# Altium integrated library Linear Technology Power Management LDO Linear Regulators.IntLib: 2339 symbols (part 122 of 131)
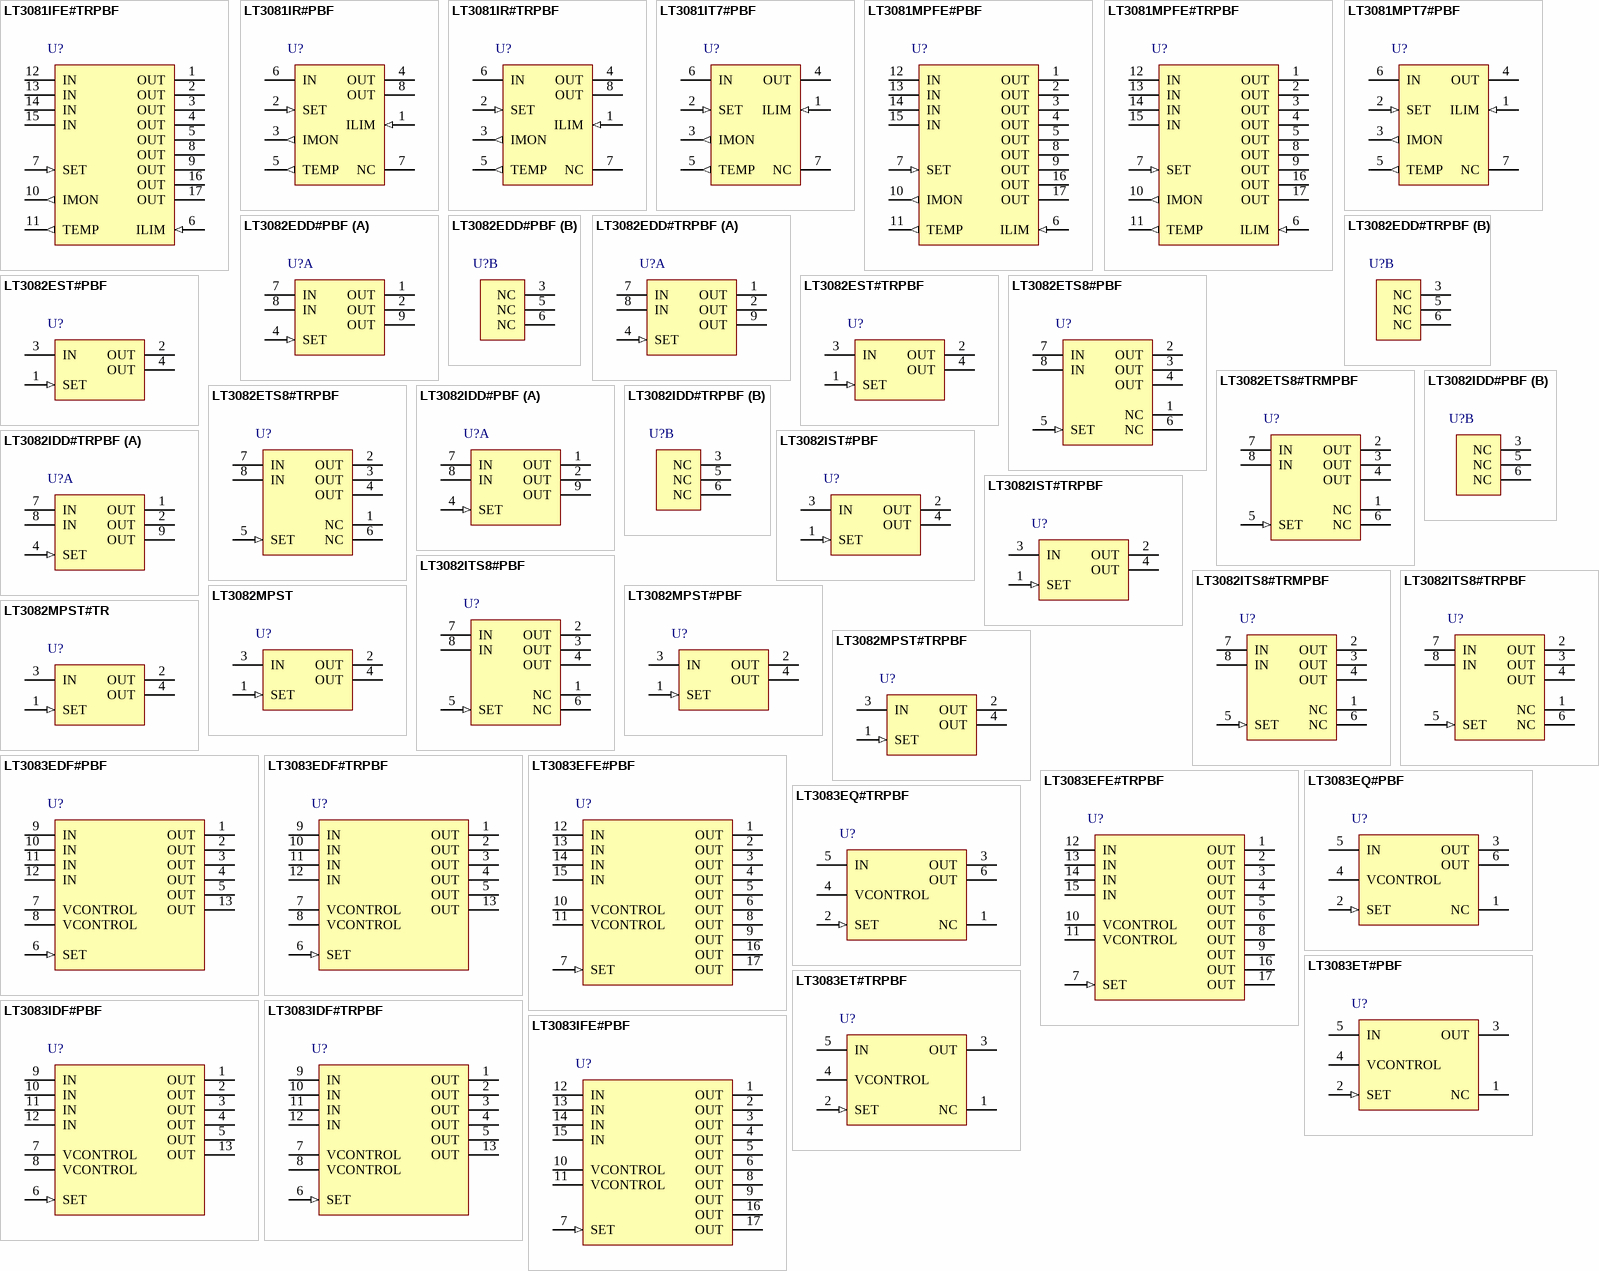
[diagram p190: symbols LT3081IFE#TRPBF to LT3083IFE#PBF]

## LT3081MPFE#PBF
designator U?
1.5 A Single Resistor Rugged Linear Regulator with Monitor, 1.2 to 36 V Vin, Adjustable Vout, 16-pin SOP (FE-16-EPV-BB), -55 to 125 degC, Pb-Free; Manufacturer: Linear Technology; PartNumber: LT3081MPFE#PBF; Discrete Pass Element: no; Dropout Voltage(V): 1.21; Iout(mA): 1500; Isupply(mA): 1.1; Noise(uV): 27; Number of Outputs: 1; Output Voltage: Adj; PSRR(dB): 90; Vin Max(V): 36; Vin Min(V): 1.2; Vout Max(V): 34.5; Vout Min(V): 0; PackageVersion: Rev. J, 11/2012; PackageReference: FE-16; PackageDescription: 16-Pin Plastic TSSOP, Body 5 x 4.4 mm, Pitch 0.65 mm; Supplier 1: Newark; Supplier Part Number 1: 94W8455; RoHS: TRUE; Mounting Technology: Surface Mount; ComponentLink1Description: Manufacturer URL; ComponentLink1URL: http://www.linear.com/; ComponentLink2Description: Datasheet; ComponentLink2URL: http://cds.linear.com/docs/en/datasheet/3081f.pdf; ComponentLink3Description: Package Specification; ComponentLink3URL: http://cds.linear.com/docs/en/packaging/05081663__J_FE16(BB).pdf
footprint LT-FE-16-EPV-BB_N (SOP, 16-Leads, Body 5.1x4.5mm, Pitch 0.65mm, Thermal Pad 3.58x2.94mm, IPC Medium Density)
footprint LT-FE-16-EPV-BB_L (SOP, 16-Leads, Body 5.1x4.5mm, Pitch 0.65mm, Thermal Pad 3.58x2.94mm, IPC High Density)
footprint LT-FE-16-EPV-BB_M (SOP, 16-Leads, Body 5.1x4.5mm, Pitch 0.65mm, Thermal Pad 3.58x2.94mm, IPC Low Density)
pins: 1 OUT (power) "Output. This is the power output of the device. The LT3081 requires a 5mA minimum load current for proper output regulation.", 2 OUT (power) "Output. This is the power output of the device. The LT3081 requires a 5mA minimum load current for proper output regulation.", 3 OUT (power) "Output. This is the power output of the device. The LT3081 requires a 5mA minimum load current for proper output regulation.", 4 OUT (power) "Output. This is the power output of the device. The LT3081 requires a 5mA minimum load current for proper output regulation.", 5 OUT (power) "Output. This is the power output of the device. The LT3081 requires a 5mA minimum load current for proper output regulation.", 6 ILIM (in) "Current Limit Program. A resistor between this pin and OUT programs output current limit to a level proportional to resistor value. Connect this resistor directly to OUT at the pins of the package. The typical ratio of (See Datasheet)", 7 SET (in) "Set. This pin is the error amplifier’s noninverting input and also sets the operating bias point of the circuit. A fixed 50uA current source flows out of this pin. A single external resistor programs VOUT. Output voltag(See Datasheet)", 8 OUT (power) "Output. This is the power output of the device. The LT3081 requires a 5mA minimum load current for proper output regulation.", 9 OUT (power) "Output. This is the power output of the device. The LT3081 requires a 5mA minimum load current for proper output regulation.", 10 IMON (out) "Output Current Monitor. The IMON pin sources a current typically equal to ILOAD/5000 or 200uA per amp of output current. Terminating this pin with a resistor to GND produces a voltage proportional to ILOAD. For example, at (See Datasheet)", 11 TEMP (out) "Temperature Output. This pin delivers a current proportional to the internal average junction temperature. Current output is 1uA/degreesC for temperatures above 5degreesC. The TEMP pin output current typically equals 25uA at (See Datasheet)", 12 IN (power) "Input. This pin supplies power to regulate internal circuitry and supply output load current. For the device to operate properly and regulate, the voltage on this pin must be between the dropout voltage and 36V above the OUT (See Datasheet)", 13 IN (power) "Input. This pin supplies power to regulate internal circuitry and supply output load current. For the device to operate properly and regulate, the voltage on this pin must be between the dropout voltage and 36V above the OUT (See Datasheet)", 14 IN (power) "Input. This pin supplies power to regulate internal circuitry and supply output load current. For the device to operate properly and regulate, the voltage on this pin must be between the dropout voltage and 36V above the OUT (See Datasheet)", 15 IN (power) "Input. This pin supplies power to regulate internal circuitry and supply output load current. For the device to operate properly and regulate, the voltage on this pin must be between the dropout voltage and 36V above the OUT (See Datasheet)", 16 OUT (power) "Output. This is the power output of the device. The LT3081 requires a 5mA minimum load current for proper output regulation.", 17 OUT (power) "Output. The exposed pad of the DF and FE packages and the tab of the R and T7 packages are tied internally to OUT. As such, tie them directly to OUT (Pins 1-4/Pins 1-5, 8, 9, 16/Pin 4/Pin 4) at the PCB. The amount of copper (See Datasheet)"

## LT3081MPFE#TRPBF
designator U?
1.5 A Single Resistor Rugged Linear Regulator with Monitor, 1.2 to 36 V Vin, Adjustable Vout, 16-pin SOP (FE-16-EPV-BB), -55 to 125 degC, Pb-Free, Tape and Reel; Manufacturer: Linear Technology; PartNumber: LT3081MPFE#TRPBF; Discrete Pass Element: no; Dropout Voltage(V): 1.21; Iout(mA): 1500; Isupply(mA): 1.1; Noise(uV): 27; Number of Outputs: 1; Output Voltage: Adj; PSRR(dB): 90; Vin Max(V): 36; Vin Min(V): 1.2; Vout Max(V): 34.5; Vout Min(V): 0; PackageVersion: Rev. J, 11/2012; PackageReference: FE-16; PackageDescription: 16-Pin Plastic TSSOP, Body 5 x 4.4 mm, Pitch 0.65 mm; Supplier 1: Digi-Key; Supplier Part Number 1: LT3081MPFE#TRPBF-ND; Supplier 2: Newark; Supplier Part Number 2: 94W8456; Packing: Tape and Reel; RoHS: TRUE; Mounting Technology: Surface Mount; ComponentLink1Description: Manufacturer URL; ComponentLink1URL: http://www.linear.com/; ComponentLink2Description: Datasheet; ComponentLink2URL: http://cds.linear.com/docs/en/datasheet/3081f.pdf; ComponentLink3Description: Package Specification; ComponentLink3URL: http://cds.linear.com/docs/en/packaging/05081663__J_FE16(BB).pdf
footprint LT-FE-16-EPV-BB_N (SOP, 16-Leads, Body 5.1x4.5mm, Pitch 0.65mm, Thermal Pad 3.58x2.94mm, IPC Medium Density)
footprint LT-FE-16-EPV-BB_L (SOP, 16-Leads, Body 5.1x4.5mm, Pitch 0.65mm, Thermal Pad 3.58x2.94mm, IPC High Density)
footprint LT-FE-16-EPV-BB_M (SOP, 16-Leads, Body 5.1x4.5mm, Pitch 0.65mm, Thermal Pad 3.58x2.94mm, IPC Low Density)
pins: 1 OUT (power) "Output. This is the power output of the device. The LT3081 requires a 5mA minimum load current for proper output regulation.", 2 OUT (power) "Output. This is the power output of the device. The LT3081 requires a 5mA minimum load current for proper output regulation.", 3 OUT (power) "Output. This is the power output of the device. The LT3081 requires a 5mA minimum load current for proper output regulation.", 4 OUT (power) "Output. This is the power output of the device. The LT3081 requires a 5mA minimum load current for proper output regulation.", 5 OUT (power) "Output. This is the power output of the device. The LT3081 requires a 5mA minimum load current for proper output regulation.", 6 ILIM (in) "Current Limit Program. A resistor between this pin and OUT programs output current limit to a level proportional to resistor value. Connect this resistor directly to OUT at the pins of the package. The typical ratio of (See Datasheet)", 7 SET (in) "Set. This pin is the error amplifier’s noninverting input and also sets the operating bias point of the circuit. A fixed 50uA current source flows out of this pin. A single external resistor programs VOUT. Output voltag(See Datasheet)", 8 OUT (power) "Output. This is the power output of the device. The LT3081 requires a 5mA minimum load current for proper output regulation.", 9 OUT (power) "Output. This is the power output of the device. The LT3081 requires a 5mA minimum load current for proper output regulation.", 10 IMON (out) "Output Current Monitor. The IMON pin sources a current typically equal to ILOAD/5000 or 200uA per amp of output current. Terminating this pin with a resistor to GND produces a voltage proportional to ILOAD. For example, at (See Datasheet)", 11 TEMP (out) "Temperature Output. This pin delivers a current proportional to the internal average junction temperature. Current output is 1uA/degreesC for temperatures above 5degreesC. The TEMP pin output current typically equals 25uA at (See Datasheet)", 12 IN (power) "Input. This pin supplies power to regulate internal circuitry and supply output load current. For the device to operate properly and regulate, the voltage on this pin must be between the dropout voltage and 36V above the OUT (See Datasheet)", 13 IN (power) "Input. This pin supplies power to regulate internal circuitry and supply output load current. For the device to operate properly and regulate, the voltage on this pin must be between the dropout voltage and 36V above the OUT (See Datasheet)", 14 IN (power) "Input. This pin supplies power to regulate internal circuitry and supply output load current. For the device to operate properly and regulate, the voltage on this pin must be between the dropout voltage and 36V above the OUT (See Datasheet)", 15 IN (power) "Input. This pin supplies power to regulate internal circuitry and supply output load current. For the device to operate properly and regulate, the voltage on this pin must be between the dropout voltage and 36V above the OUT (See Datasheet)", 16 OUT (power) "Output. This is the power output of the device. The LT3081 requires a 5mA minimum load current for proper output regulation.", 17 OUT (power) "Output. The exposed pad of the DF and FE packages and the tab of the R and T7 packages are tied internally to OUT. As such, tie them directly to OUT (Pins 1-4/Pins 1-5, 8, 9, 16/Pin 4/Pin 4) at the PCB. The amount of copper (See Datasheet)"

## LT3081MPT7#PBF
designator U?
1.5 A Single Resistor Rugged Linear Regulator with Monitor, 1.2 to 36 V Vin, Adjustable Vout, 7-pin FM (T7-7), -55 to 125 degC, Pb-Free; Manufacturer: Linear Technology; PartNumber: LT3081MPT7#PBF; Discrete Pass Element: no; Dropout Voltage(V): 1.21; Iout(mA): 1500; Isupply(mA): 1.1; Noise(uV): 27; Number of Outputs: 1; Output Voltage: Adj; PSRR(dB): 90; Vin Max(V): 36; Vin Min(V): 1.2; Vout Max(V): 34.5; Vout Min(V): 0; PackageVersion: Jun-10; PackageReference: T7-7; PackageDescription: 7-Pin Plastic TO-220 (Straight Lead), Body 10.224 x 4.382 mm, Pitch 1.27 mm; Supplier 1: Newark; Supplier Part Number 1: 94W8457; RoHS: TRUE; Mounting Technology: Through Hole; ComponentLink1Description: Manufacturer URL; ComponentLink1URL: http://www.linear.com/; ComponentLink2Description: Datasheet; ComponentLink2URL: http://cds.linear.com/docs/en/datasheet/3081f.pdf; ComponentLink3Description: Package Specification; ComponentLink3URL: http://www.linear.com/docs/en/packaging/TO-220_7_05-08-1422_STRAIGHT_LEAD.pdf
footprint LT-T7-7-S_V (FM, 7-Leads, Body 10.55x4.6mm, Pitch 1.27mm)
pins: 1 ILIM (in) "Current Limit Program. A resistor between this pin and OUT programs output current limit to a level proportional to resistor value. Connect this resistor directly to OUT at the pins of the package. The typical ratio of (See Datasheet)", 2 SET (in) "Set. This pin is the error amplifier’s noninverting input and also sets the operating bias point of the circuit. A fixed 50uA current source flows out of this pin. A single external resistor programs VOUT. Output voltag(See Datasheet)", 3 IMON (out) "Output Current Monitor. The IMON pin sources a current typically equal to ILOAD/5000 or 200uA per amp of output current. Terminating this pin with a resistor to GND produces a voltage proportional to ILOAD. For example, at (See Datasheet)", 4 OUT (power) "Output. This is the power output of the device. The LT3081 requires a 5mA minimum load current for proper output regulation.", 5 TEMP (out) "Temperature Output. This pin delivers a current proportional to the internal average junction temperature. Current output is 1uA/degC for temperatures above 5degC. The TEMP pin output current typically equals 25uA at 25degC. (See Datasheet)", 6 IN (power) "Input. This pin supplies power to regulate internal circuitry and supply output load current. For the device to operate properly and regulate, the voltage on this pin must be between the dropout voltage and 36V above the OUT (See Datasheet)", 7 NC "No Connection. No connect pins have no connection to internal circuitry and may be tied to IN, OUT, GND or floated."

## LT3082EDD#PBF
designator U?
200 mA Single Resistor Low Dropout Linear Regulator, 1.2 to 40 V Vin, Adjustable Vout, 8-pin SON (DD-8), -40 to 125 degC, Pb-Free; Manufacturer: Linear Technology; PartNumber: LT3082EDD#PBF; Discrete Pass Element: no; Dropout Voltage(V): 1.3; Iout(mA): 200; Isupply(mA): 0.3; Noise(uV): 33; Number of Outputs: 1; Output Voltage: Adj; PSRR(dB): 90; Vin Max(V): 40; Vin Min(V): 1.2; Vout Max(V): 38.5; Vout Min(V): 0; PackageVersion: Jun-10; PackageReference: DD-8; PackageDescription: 8-Pin Plastic DFN, Body 3 x 3 mm, Pitch 0.5 mm; Supplier 1: Digi-Key; Supplier Part Number 1: LT3082EDD#PBF-ND; Supplier 2: Farnell; Supplier Part Number 2: 2295276; Supplier 3: Newark; Supplier Part Number 3: 28R7638; RoHS: TRUE; Mounting Technology: Surface Mount; Code_JEDEC: MO-229; ComponentLink1Description: Manufacturer URL; ComponentLink1URL: http://www.linear.com/; ComponentLink2Description: Datasheet; ComponentLink2URL: http://cds.linear.com/docs/en/datasheet/3082f.pdf; ComponentLink3Description: Package Specification; ComponentLink3URL: http://cds.linear.com/docs/en/packaging/DFN_8_05-08-1698.pdf
footprint LT-DD-8_V (SON, 8-Leads, Body 3x3mm, Pitch 0.5mm, Thermal Pad 1.65x2.38 mm, IPC Low Density)
part A pins: 1 OUT (power) "Output. This is the power output of the device. The LT3082 requires a 0.5mA minimum load current or the output will not regulate.", 2 OUT (power) "Output. This is the power output of the device. The LT3082 requires a 0.5mA minimum load current or the output will not regulate.", 4 SET (in) "Set. This pin is the error amplifier’s noninverting input and also sets the operating bias point of the circuit. A fixed 10uA current source flows out of this pin. A single external resistor programs VOUT. Output voltag(See Datasheet)", 7 IN (power) "Input. This pin supplies power to regulate internal circuitry and supply output load current. For the device to operate properly and regulate, the voltage on this pin must be 1.2V to 1.4V above the OUT pin (depending on (See Datasheet)", 8 IN (power) "Input. This pin supplies power to regulate internal circuitry and supply output load current. For the device to operate properly and regulate, the voltage on this pin must be 1.2V to 1.4V above the OUT pin (depending on (See Datasheet)", 9 OUT (power) "Output. The Exposed Pad of the DFN package and the Tab of the SOT-223 package are tied internally to OUT. Tie them directly to OUT pins (Pins 1, 2/Pin 2) at the PCB. The amount of copper area and planes connected to the (See Datasheet)"
part B pins: 3 NC "No Connection. These pins have no connection to internal circuitry and may be tied to IN, OUT, GND or floated.", 5 NC "No Connection. These pins have no connection to internal circuitry and may be tied to IN, OUT, GND or floated.", 6 NC "No Connection. These pins have no connection to internal circuitry and may be tied to IN, OUT, GND or floated."

## LT3082EDD#TRPBF
designator U?
200 mA Single Resistor Low Dropout Linear Regulator, 1.2 to 40 V Vin, Adjustable Vout, 8-pin SON (DD-8), -40 to 125 degC, Pb-Free, Tape and Reel; Manufacturer: Linear Technology; PartNumber: LT3082EDD#TRPBF; Discrete Pass Element: no; Dropout Voltage(V): 1.3; Iout(mA): 200; Isupply(mA): 0.3; Noise(uV): 33; Number of Outputs: 1; Output Voltage: Adj; PSRR(dB): 90; Vin Max(V): 40; Vin Min(V): 1.2; Vout Max(V): 38.5; Vout Min(V): 0; PackageVersion: Jun-10; PackageReference: DD-8; PackageDescription: 8-Pin Plastic DFN, Body 3 x 3 mm, Pitch 0.5 mm; Supplier 1: Digi-Key; Supplier Part Number 1: LT3082EDD#TRPBF-ND; Supplier 2: Newark; Supplier Part Number 2: 72R5799; Packing: Tape and Reel; RoHS: TRUE; Mounting Technology: Surface Mount; Code_JEDEC: MO-229; ComponentLink1Description: Manufacturer URL; ComponentLink1URL: http://www.linear.com/; ComponentLink2Description: Datasheet; ComponentLink2URL: http://cds.linear.com/docs/en/datasheet/3082f.pdf; ComponentLink3Description: Package Specification; ComponentLink3URL: http://cds.linear.com/docs/en/packaging/DFN_8_05-08-1698.pdf
footprint LT-DD-8_V (SON, 8-Leads, Body 3x3mm, Pitch 0.5mm, Thermal Pad 1.65x2.38 mm, IPC Low Density)
part A pins: 1 OUT (power) "Output. This is the power output of the device. The LT3082 requires a 0.5mA minimum load current or the output will not regulate.", 2 OUT (power) "Output. This is the power output of the device. The LT3082 requires a 0.5mA minimum load current or the output will not regulate.", 4 SET (in) "Set. This pin is the error amplifier’s noninverting input and also sets the operating bias point of the circuit. A fixed 10uA current source flows out of this pin. A single external resistor programs VOUT. Output voltag(See Datasheet)", 7 IN (power) "Input. This pin supplies power to regulate internal circuitry and supply output load current. For the device to operate properly and regulate, the voltage on this pin must be 1.2V to 1.4V above the OUT pin (depending on (See Datasheet)", 8 IN (power) "Input. This pin supplies power to regulate internal circuitry and supply output load current. For the device to operate properly and regulate, the voltage on this pin must be 1.2V to 1.4V above the OUT pin (depending on (See Datasheet)", 9 OUT (power) "Output. The Exposed Pad of the DFN package and the Tab of the SOT-223 package are tied internally to OUT. Tie them directly to OUT pins (Pins 1, 2/Pin 2) at the PCB. The amount of copper area and planes connected to the (See Datasheet)"
part B pins: 3 NC "No Connection. These pins have no connection to internal circuitry and may be tied to IN, OUT, GND or floated.", 5 NC "No Connection. These pins have no connection to internal circuitry and may be tied to IN, OUT, GND or floated.", 6 NC "No Connection. These pins have no connection to internal circuitry and may be tied to IN, OUT, GND or floated."

## LT3082EST#PBF
designator U?
200 mA Single Resistor Low Dropout Linear Regulator, 1.2 to 40 V Vin, Adjustable Vout, 3-pin SOT223 (ST-3), -40 to 125 degC, Pb-Free; Manufacturer: Linear Technology; PartNumber: LT3082EST#PBF; Discrete Pass Element: no; Dropout Voltage(V): 1.3; Iout(mA): 200; Isupply(mA): 0.3; Noise(uV): 33; Number of Outputs: 1; Output Voltage: Adj; PSRR(dB): 90; Vin Max(V): 40; Vin Min(V): 1.2; Vout Max(V): 38.5; Vout Min(V): 0; PackageVersion: Jun-10; PackageReference: ST-3; PackageDescription: 3-Pin Plastic SOT-223, 3.505 x 6.505 mm Body, Pitch 2.3 mm; Supplier 1: Digi-Key; Supplier Part Number 1: LT3082EST#PBF-ND; Supplier 2: Farnell; Supplier Part Number 2: 2295277; Supplier 3: Newark; Supplier Part Number 3: 28R7639; RoHS: TRUE; Mounting Technology: Surface Mount; ComponentLink1Description: Manufacturer URL; ComponentLink1URL: http://www.linear.com/; ComponentLink2Description: Datasheet; ComponentLink2URL: http://cds.linear.com/docs/en/datasheet/3082f.pdf; ComponentLink3Description: Package Specification; ComponentLink3URL: http://cds.linear.com/docs/en/packaging/SOT_3_05-08-1630.pdf
footprint LT-ST-3-SOT-223_N (SOT223, 4-Leads, Body 6.505x3.505mm, Pitch 2.3mm, IPC Medium Density)
footprint LT-ST-3-SOT-223_L (SOT223, 4-Leads, Body 6.505x3.505mm, Pitch 2.3mm, IPC High Density)
footprint LT-ST-3-SOT-223_M (SOT223, 4-Leads, Body 6.505x3.505mm, Pitch 2.3mm, IPC Low Density)
pins: 1 SET (in) "Set. This pin is the error amplifier's noninverting input and also sets the operating bias point of the circuit. A fixed 10uA current source flows out of this pin. A single external resistor programs VOUT. Output voltag(See Datasheet)", 2 OUT (power) "Output. This is the power output of the device. The LT3082 requires a 0.5mA minimum load current or the output will not regulate.", 3 IN (power) "Input. This pin supplies power to regulate internal circuitry and supply output load current. For the device to operate properly and regulate, the voltage on this pin must be 1.2V to 1.4V above the OUT pin (depending on (See Datasheet)", 4 OUT (power) "Output. This is the power output of the device. The LT3082 requires a 0.5mA minimum load current or the output will not regulate."

## LT3082EST#TRPBF
designator U?
200 mA Single Resistor Low Dropout Linear Regulator, 1.2 to 40 V Vin, Adjustable Vout, 3-pin SOT223 (ST-3), -40 to 125 degC, Pb-Free, Tape and Reel; Manufacturer: Linear Technology; PartNumber: LT3082EST#TRPBF; Discrete Pass Element: no; Dropout Voltage(V): 1.3; Iout(mA): 200; Isupply(mA): 0.3; Noise(uV): 33; Number of Outputs: 1; Output Voltage: Adj; PSRR(dB): 90; Vin Max(V): 40; Vin Min(V): 1.2; Vout Max(V): 38.5; Vout Min(V): 0; PackageVersion: Jun-10; PackageReference: ST-3; PackageDescription: 3-Pin Plastic SOT-223, 3.505 x 6.505 mm Body, Pitch 2.3 mm; Supplier 1: Digi-Key; Supplier Part Number 1: LT3082EST#TRPBF-ND; Supplier 2: Newark; Supplier Part Number 2: 72R5800; Packing: Tape and Reel; RoHS: TRUE; Mounting Technology: Surface Mount; ComponentLink1Description: Manufacturer URL; ComponentLink1URL: http://www.linear.com/; ComponentLink2Description: Datasheet; ComponentLink2URL: http://cds.linear.com/docs/en/datasheet/3082f.pdf; ComponentLink3Description: Package Specification; ComponentLink3URL: http://cds.linear.com/docs/en/packaging/SOT_3_05-08-1630.pdf
footprint LT-ST-3-SOT-223_N (SOT223, 4-Leads, Body 6.505x3.505mm, Pitch 2.3mm, IPC Medium Density)
footprint LT-ST-3-SOT-223_L (SOT223, 4-Leads, Body 6.505x3.505mm, Pitch 2.3mm, IPC High Density)
footprint LT-ST-3-SOT-223_M (SOT223, 4-Leads, Body 6.505x3.505mm, Pitch 2.3mm, IPC Low Density)
pins: 1 SET (in) "Set. This pin is the error amplifier's noninverting input and also sets the operating bias point of the circuit. A fixed 10uA current source flows out of this pin. A single external resistor programs VOUT. Output voltag(See Datasheet)", 2 OUT (power) "Output. This is the power output of the device. The LT3082 requires a 0.5mA minimum load current or the output will not regulate.", 3 IN (power) "Input. This pin supplies power to regulate internal circuitry and supply output load current. For the device to operate properly and regulate, the voltage on this pin must be 1.2V to 1.4V above the OUT pin (depending on (See Datasheet)", 4 OUT (power) "Output. This is the power output of the device. The LT3082 requires a 0.5mA minimum load current or the output will not regulate."

## LT3082ETS8#PBF
designator U?
200 mA Single Resistor Low Dropout Linear Regulator, 1.2 to 40 V Vin, Adjustable Vout, 8-pin SOT23 (TS8-8), -40 to 125 degC, Pb-Free; Manufacturer: Linear Technology; PartNumber: LT3082ETS8#PBF; Discrete Pass Element: no; Dropout Voltage(V): 1.3; Iout(mA): 200; Isupply(mA): 0.3; Noise(uV): 33; Number of Outputs: 1; Output Voltage: Adj; PSRR(dB): 90; Vin Max(V): 40; Vin Min(V): 1.2; Vout Max(V): 38.5; Vout Min(V): 0; PackageVersion: Rev. A, 08/2010; PackageReference: TS8-8; PackageDescription: 8-Pin Plastic TSOT-23, Body 2.9 x 1.63 mm, Pitch 0.65 mm; Supplier 1: Farnell; Supplier Part Number 1: 2308196; Supplier 2: Newark; Supplier Part Number 2: 78T3979; RoHS: TRUE; Mounting Technology: Surface Mount; Code_JEDEC: MO-193; ComponentLink1Description: Manufacturer URL; ComponentLink1URL: http://www.linear.com/; ComponentLink2Description: Datasheet; ComponentLink2URL: http://cds.linear.com/docs/en/datasheet/3082f.pdf; ComponentLink3Description: Package Specification; ComponentLink3URL: http://cds.linear.com/docs/en/packaging/SOT_8_05-08-1637.pdf
footprint LT-TS8-8-TSOT-23_V (SOT23, 8-Leads, Body 2.90x1.63mm, Pitch 0.65mm, Recommended)
pins: 1 NC "No Connection. These pins have no connection to internal circuitry and may be tied to IN, OUT, GND or floated.", 2 OUT (power) "Output. This is the power output of the device. The LT3082 requires a 0.5mA minimum load current or the output will not regulate.", 3 OUT (power) "Output. This is the power output of the device. The LT3082 requires a 0.5mA minimum load current or the output will not regulate.", 4 OUT (power) "Output. This is the power output of the device. The LT3082 requires a 0.5mA minimum load current or the output will not regulate.", 5 SET (in) "Set. This pin is the error amplifier’s noninverting input and also sets the operating bias point of the circuit. A fixed 10uA current source flows out of this pin. A single external resistor programs VOUT. Output voltag(See Datasheet)", 6 NC "No Connection. These pins have no connection to internal circuitry and may be tied to IN, OUT, GND or floated.", 7 IN (power) "Input. This pin supplies power to regulate internal circuitry and supply output load current. For the device to operate properly and regulate, the voltage on this pin must be 1.2V to 1.4V above the OUT pin (depending on (See Datasheet)", 8 IN (power) "Input. This pin supplies power to regulate internal circuitry and supply output load current. For the device to operate properly and regulate, the voltage on this pin must be 1.2V to 1.4V above the OUT pin (depending on (See Datasheet)"

## LT3082ETS8#TRMPBF
designator U?
200 mA Single Resistor Low Dropout Linear Regulator, 1.2 to 40 V Vin, Adjustable Vout, 8-pin SOT23 (TS8-8), -40 to 125 degC, Pb-Free, Mini Tape and Reel; Manufacturer: Linear Technology; PartNumber: LT3082ETS8#TRMPBF; Discrete Pass Element: no; Dropout Voltage(V): 1.3; Iout(mA): 200; Isupply(mA): 0.3; Noise(uV): 33; Number of Outputs: 1; Output Voltage: Adj; PSRR(dB): 90; Vin Max(V): 40; Vin Min(V): 1.2; Vout Max(V): 38.5; Vout Min(V): 0; PackageVersion: Rev. A, 08/2010; PackageReference: TS8-8; PackageDescription: 8-Pin Plastic TSOT-23, Body 2.9 x 1.63 mm, Pitch 0.65 mm; Supplier 1: Digi-Key; Supplier Part Number 1: LT3082ETS8#TRMPBFTR-ND; Supplier 2: Digi-Key; Supplier Part Number 2: LT3082ETS8#TRMPBFCT-ND; Supplier 3: Digi-Key; Supplier Part Number 3: LT3082ETS8#TRMPBFDKR-ND; Supplier 4: Newark; Supplier Part Number 4: 53R1266; Packing: Mini Tape and Reel; RoHS: TRUE; Mounting Technology: Surface Mount; Code_JEDEC: MO-193; ComponentLink1Description: Manufacturer URL; ComponentLink1URL: http://www.linear.com/; ComponentLink2Description: Datasheet; ComponentLink2URL: http://cds.linear.com/docs/en/datasheet/3082f.pdf; ComponentLink3Description: Package Specification; ComponentLink3URL: http://cds.linear.com/docs/en/packaging/SOT_8_05-08-1637.pdf
footprint LT-TS8-8-TSOT-23_V (SOT23, 8-Leads, Body 2.90x1.63mm, Pitch 0.65mm, Recommended)
pins: 1 NC "No Connection. These pins have no connection to internal circuitry and may be tied to IN, OUT, GND or floated.", 2 OUT (power) "Output. This is the power output of the device. The LT3082 requires a 0.5mA minimum load current or the output will not regulate.", 3 OUT (power) "Output. This is the power output of the device. The LT3082 requires a 0.5mA minimum load current or the output will not regulate.", 4 OUT (power) "Output. This is the power output of the device. The LT3082 requires a 0.5mA minimum load current or the output will not regulate.", 5 SET (in) "Set. This pin is the error amplifier’s noninverting input and also sets the operating bias point of the circuit. A fixed 10uA current source flows out of this pin. A single external resistor programs VOUT. Output voltag(See Datasheet)", 6 NC "No Connection. These pins have no connection to internal circuitry and may be tied to IN, OUT, GND or floated.", 7 IN (power) "Input. This pin supplies power to regulate internal circuitry and supply output load current. For the device to operate properly and regulate, the voltage on this pin must be 1.2V to 1.4V above the OUT pin (depending on (See Datasheet)", 8 IN (power) "Input. This pin supplies power to regulate internal circuitry and supply output load current. For the device to operate properly and regulate, the voltage on this pin must be 1.2V to 1.4V above the OUT pin (depending on (See Datasheet)"

## LT3082ETS8#TRPBF
designator U?
200 mA Single Resistor Low Dropout Linear Regulator, 1.2 to 40 V Vin, Adjustable Vout, 8-pin SOT23 (TS8-8), -40 to 125 degC, Pb-Free, Tape and Reel; Manufacturer: Linear Technology; PartNumber: LT3082ETS8#TRPBF; Discrete Pass Element: no; Dropout Voltage(V): 1.3; Iout(mA): 200; Isupply(mA): 0.3; Noise(uV): 33; Number of Outputs: 1; Output Voltage: Adj; PSRR(dB): 90; Vin Max(V): 40; Vin Min(V): 1.2; Vout Max(V): 38.5; Vout Min(V): 0; PackageVersion: Rev. A, 08/2010; PackageReference: TS8-8; PackageDescription: 8-Pin Plastic TSOT-23, Body 2.9 x 1.63 mm, Pitch 0.65 mm; Supplier 1: Digi-Key; Supplier Part Number 1: LT3082ETS8#TRPBF-ND; Packing: Tape and Reel; RoHS: TRUE; Mounting Technology: Surface Mount; Code_JEDEC: MO-193; ComponentLink1Description: Manufacturer URL; ComponentLink1URL: http://www.linear.com/; ComponentLink2Description: Datasheet; ComponentLink2URL: http://cds.linear.com/docs/en/datasheet/3082f.pdf; ComponentLink3Description: Package Specification; ComponentLink3URL: http://cds.linear.com/docs/en/packaging/SOT_8_05-08-1637.pdf
footprint LT-TS8-8-TSOT-23_V (SOT23, 8-Leads, Body 2.90x1.63mm, Pitch 0.65mm, Recommended)
pins: 1 NC "No Connection. These pins have no connection to internal circuitry and may be tied to IN, OUT, GND or floated.", 2 OUT (power) "Output. This is the power output of the device. The LT3082 requires a 0.5mA minimum load current or the output will not regulate.", 3 OUT (power) "Output. This is the power output of the device. The LT3082 requires a 0.5mA minimum load current or the output will not regulate.", 4 OUT (power) "Output. This is the power output of the device. The LT3082 requires a 0.5mA minimum load current or the output will not regulate.", 5 SET (in) "Set. This pin is the error amplifier’s noninverting input and also sets the operating bias point of the circuit. A fixed 10uA current source flows out of this pin. A single external resistor programs VOUT. Output voltag(See Datasheet)", 6 NC "No Connection. These pins have no connection to internal circuitry and may be tied to IN, OUT, GND or floated.", 7 IN (power) "Input. This pin supplies power to regulate internal circuitry and supply output load current. For the device to operate properly and regulate, the voltage on this pin must be 1.2V to 1.4V above the OUT pin (depending on (See Datasheet)", 8 IN (power) "Input. This pin supplies power to regulate internal circuitry and supply output load current. For the device to operate properly and regulate, the voltage on this pin must be 1.2V to 1.4V above the OUT pin (depending on (See Datasheet)"

## LT3082IDD#PBF
designator U?
200 mA Single Resistor Low Dropout Linear Regulator, 1.2 to 40 V Vin, Adjustable Vout, 8-pin SON (DD-8), -40 to 125 degC, Pb-Free; Manufacturer: Linear Technology; PartNumber: LT3082IDD#PBF; Discrete Pass Element: no; Dropout Voltage(V): 1.3; Iout(mA): 200; Isupply(mA): 0.3; Noise(uV): 33; Number of Outputs: 1; Output Voltage: Adj; PSRR(dB): 90; Vin Max(V): 40; Vin Min(V): 1.2; Vout Max(V): 38.5; Vout Min(V): 0; PackageVersion: Jun-10; PackageReference: DD-8; PackageDescription: 8-Pin Plastic DFN, Body 3 x 3 mm, Pitch 0.5 mm; Supplier 1: Digi-Key; Supplier Part Number 1: LT3082IDD#PBF-ND; Supplier 2: Farnell; Supplier Part Number 2: 2295278; Supplier 3: Newark; Supplier Part Number 3: 72R5802; RoHS: TRUE; Mounting Technology: Surface Mount; Code_JEDEC: MO-229; ComponentLink1Description: Manufacturer URL; ComponentLink1URL: http://www.linear.com/; ComponentLink2Description: Datasheet; ComponentLink2URL: http://cds.linear.com/docs/en/datasheet/3082f.pdf; ComponentLink3Description: Package Specification; ComponentLink3URL: http://cds.linear.com/docs/en/packaging/DFN_8_05-08-1698.pdf
footprint LT-DD-8_V (SON, 8-Leads, Body 3x3mm, Pitch 0.5mm, Thermal Pad 1.65x2.38 mm, IPC Low Density)
part A pins: 1 OUT (power) "Output. This is the power output of the device. The LT3082 requires a 0.5mA minimum load current or the output will not regulate.", 2 OUT (power) "Output. This is the power output of the device. The LT3082 requires a 0.5mA minimum load current or the output will not regulate.", 4 SET (in) "Set. This pin is the error amplifier’s noninverting input and also sets the operating bias point of the circuit. A fixed 10uA current source flows out of this pin. A single external resistor programs VOUT. Output voltag(See Datasheet)", 7 IN (power) "Input. This pin supplies power to regulate internal circuitry and supply output load current. For the device to operate properly and regulate, the voltage on this pin must be 1.2V to 1.4V above the OUT pin (depending on (See Datasheet)", 8 IN (power) "Input. This pin supplies power to regulate internal circuitry and supply output load current. For the device to operate properly and regulate, the voltage on this pin must be 1.2V to 1.4V above the OUT pin (depending on (See Datasheet)", 9 OUT (power) "Output. The Exposed Pad of the DFN package and the Tab of the SOT-223 package are tied internally to OUT. Tie them directly to OUT pins (Pins 1, 2/Pin 2) at the PCB. The amount of copper area and planes connected to the (See Datasheet)"
part B pins: 3 NC "No Connection. These pins have no connection to internal circuitry and may be tied to IN, OUT, GND or floated.", 5 NC "No Connection. These pins have no connection to internal circuitry and may be tied to IN, OUT, GND or floated.", 6 NC "No Connection. These pins have no connection to internal circuitry and may be tied to IN, OUT, GND or floated."

## LT3082IDD#TRPBF
designator U?
200 mA Single Resistor Low Dropout Linear Regulator, 1.2 to 40 V Vin, Adjustable Vout, 8-pin SON (DD-8), -40 to 125 degC, Pb-Free, Tape and Reel; Manufacturer: Linear Technology; PartNumber: LT3082IDD#TRPBF; Discrete Pass Element: no; Dropout Voltage(V): 1.3; Iout(mA): 200; Isupply(mA): 0.3; Noise(uV): 33; Number of Outputs: 1; Output Voltage: Adj; PSRR(dB): 90; Vin Max(V): 40; Vin Min(V): 1.2; Vout Max(V): 38.5; Vout Min(V): 0; PackageVersion: Jun-10; PackageReference: DD-8; PackageDescription: 8-Pin Plastic DFN, Body 3 x 3 mm, Pitch 0.5 mm; Supplier 1: Digi-Key; Supplier Part Number 1: LT3082IDD#TRPBF-ND; Packing: Tape and Reel; RoHS: TRUE; Mounting Technology: Surface Mount; Code_JEDEC: MO-229; ComponentLink1Description: Manufacturer URL; ComponentLink1URL: http://www.linear.com/; ComponentLink2Description: Datasheet; ComponentLink2URL: http://cds.linear.com/docs/en/datasheet/3082f.pdf; ComponentLink3Description: Package Specification; ComponentLink3URL: http://cds.linear.com/docs/en/packaging/DFN_8_05-08-1698.pdf
footprint LT-DD-8_V (SON, 8-Leads, Body 3x3mm, Pitch 0.5mm, Thermal Pad 1.65x2.38 mm, IPC Low Density)
part A pins: 1 OUT (power) "Output. This is the power output of the device. The LT3082 requires a 0.5mA minimum load current or the output will not regulate.", 2 OUT (power) "Output. This is the power output of the device. The LT3082 requires a 0.5mA minimum load current or the output will not regulate.", 4 SET (in) "Set. This pin is the error amplifier’s noninverting input and also sets the operating bias point of the circuit. A fixed 10uA current source flows out of this pin. A single external resistor programs VOUT. Output voltag(See Datasheet)", 7 IN (power) "Input. This pin supplies power to regulate internal circuitry and supply output load current. For the device to operate properly and regulate, the voltage on this pin must be 1.2V to 1.4V above the OUT pin (depending on (See Datasheet)", 8 IN (power) "Input. This pin supplies power to regulate internal circuitry and supply output load current. For the device to operate properly and regulate, the voltage on this pin must be 1.2V to 1.4V above the OUT pin (depending on (See Datasheet)", 9 OUT (power) "Output. The Exposed Pad of the DFN package and the Tab of the SOT-223 package are tied internally to OUT. Tie them directly to OUT pins (Pins 1, 2/Pin 2) at the PCB. The amount of copper area and planes connected to the (See Datasheet)"
part B pins: 3 NC "No Connection. These pins have no connection to internal circuitry and may be tied to IN, OUT, GND or floated.", 5 NC "No Connection. These pins have no connection to internal circuitry and may be tied to IN, OUT, GND or floated.", 6 NC "No Connection. These pins have no connection to internal circuitry and may be tied to IN, OUT, GND or floated."

## LT3082IST#PBF
designator U?
200 mA Single Resistor Low Dropout Linear Regulator, 1.2 to 40 V Vin, Adjustable Vout, 3-pin SOT223 (ST-3), -40 to 125 degC, Pb-Free; Manufacturer: Linear Technology; PartNumber: LT3082IST#PBF; Discrete Pass Element: no; Dropout Voltage(V): 1.3; Iout(mA): 200; Isupply(mA): 0.3; Noise(uV): 33; Number of Outputs: 1; Output Voltage: Adj; PSRR(dB): 90; Vin Max(V): 40; Vin Min(V): 1.2; Vout Max(V): 38.5; Vout Min(V): 0; PackageVersion: Jun-10; PackageReference: ST-3; PackageDescription: 3-Pin Plastic SOT-223, 3.505 x 6.505 mm Body, Pitch 2.3 mm; Supplier 1: Digi-Key; Supplier Part Number 1: LT3082IST#PBF-ND; Supplier 2: Farnell; Supplier Part Number 2: 2295279; Supplier 3: Newark; Supplier Part Number 3: 72R5804; RoHS: TRUE; Mounting Technology: Surface Mount; ComponentLink1Description: Manufacturer URL; ComponentLink1URL: http://www.linear.com/; ComponentLink2Description: Datasheet; ComponentLink2URL: http://cds.linear.com/docs/en/datasheet/3082f.pdf; ComponentLink3Description: Package Specification; ComponentLink3URL: http://cds.linear.com/docs/en/packaging/SOT_3_05-08-1630.pdf
footprint LT-ST-3-SOT-223_N (SOT223, 4-Leads, Body 6.505x3.505mm, Pitch 2.3mm, IPC Medium Density)
footprint LT-ST-3-SOT-223_L (SOT223, 4-Leads, Body 6.505x3.505mm, Pitch 2.3mm, IPC High Density)
footprint LT-ST-3-SOT-223_M (SOT223, 4-Leads, Body 6.505x3.505mm, Pitch 2.3mm, IPC Low Density)
pins: 1 SET (in) "Set. This pin is the error amplifier's noninverting input and also sets the operating bias point of the circuit. A fixed 10uA current source flows out of this pin. A single external resistor programs VOUT. Output voltag(See Datasheet)", 2 OUT (power) "Output. This is the power output of the device. The LT3082 requires a 0.5mA minimum load current or the output will not regulate.", 3 IN (power) "Input. This pin supplies power to regulate internal circuitry and supply output load current. For the device to operate properly and regulate, the voltage on this pin must be 1.2V to 1.4V above the OUT pin (depending on (See Datasheet)", 4 OUT (power) "Output. This is the power output of the device. The LT3082 requires a 0.5mA minimum load current or the output will not regulate."

## LT3082IST#TRPBF
designator U?
200 mA Single Resistor Low Dropout Linear Regulator, 1.2 to 40 V Vin, Adjustable Vout, 3-pin SOT223 (ST-3), -40 to 125 degC, Pb-Free, Tape and Reel; Manufacturer: Linear Technology; PartNumber: LT3082IST#TRPBF; Discrete Pass Element: no; Dropout Voltage(V): 1.3; Iout(mA): 200; Isupply(mA): 0.3; Noise(uV): 33; Number of Outputs: 1; Output Voltage: Adj; PSRR(dB): 90; Vin Max(V): 40; Vin Min(V): 1.2; Vout Max(V): 38.5; Vout Min(V): 0; PackageVersion: Jun-10; PackageReference: ST-3; PackageDescription: 3-Pin Plastic SOT-223, 3.505 x 6.505 mm Body, Pitch 2.3 mm; Supplier 1: Digi-Key; Supplier Part Number 1: LT3082IST#TRPBF-ND; Packing: Tape and Reel; RoHS: TRUE; Mounting Technology: Surface Mount; ComponentLink1Description: Manufacturer URL; ComponentLink1URL: http://www.linear.com/; ComponentLink2Description: Datasheet; ComponentLink2URL: http://cds.linear.com/docs/en/datasheet/3082f.pdf; ComponentLink3Description: Package Specification; ComponentLink3URL: http://cds.linear.com/docs/en/packaging/SOT_3_05-08-1630.pdf
footprint LT-ST-3-SOT-223_N (SOT223, 4-Leads, Body 6.505x3.505mm, Pitch 2.3mm, IPC Medium Density)
footprint LT-ST-3-SOT-223_L (SOT223, 4-Leads, Body 6.505x3.505mm, Pitch 2.3mm, IPC High Density)
footprint LT-ST-3-SOT-223_M (SOT223, 4-Leads, Body 6.505x3.505mm, Pitch 2.3mm, IPC Low Density)
pins: 1 SET (in) "Set. This pin is the error amplifier's noninverting input and also sets the operating bias point of the circuit. A fixed 10uA current source flows out of this pin. A single external resistor programs VOUT. Output voltag(See Datasheet)", 2 OUT (power) "Output. This is the power output of the device. The LT3082 requires a 0.5mA minimum load current or the output will not regulate.", 3 IN (power) "Input. This pin supplies power to regulate internal circuitry and supply output load current. For the device to operate properly and regulate, the voltage on this pin must be 1.2V to 1.4V above the OUT pin (depending on (See Datasheet)", 4 OUT (power) "Output. This is the power output of the device. The LT3082 requires a 0.5mA minimum load current or the output will not regulate."

## LT3082ITS8#PBF
designator U?
200 mA Single Resistor Low Dropout Linear Regulator, 1.2 to 40 V Vin, Adjustable Vout, 8-pin SOT23 (TS8-8), -40 to 125 degC, Pb-Free; Manufacturer: Linear Technology; PartNumber: LT3082ITS8#PBF; Discrete Pass Element: no; Dropout Voltage(V): 1.3; Iout(mA): 200; Isupply(mA): 0.3; Noise(uV): 33; Number of Outputs: 1; Output Voltage: Adj; PSRR(dB): 90; Vin Max(V): 40; Vin Min(V): 1.2; Vout Max(V): 38.5; Vout Min(V): 0; PackageVersion: Rev. A, 08/2010; PackageReference: TS8-8; PackageDescription: 8-Pin Plastic TSOT-23, Body 2.9 x 1.63 mm, Pitch 0.65 mm; Supplier 1: Newark; Supplier Part Number 1: 78T3980; RoHS: TRUE; Mounting Technology: Surface Mount; Code_JEDEC: MO-193; ComponentLink1Description: Manufacturer URL; ComponentLink1URL: http://www.linear.com/; ComponentLink2Description: Datasheet; ComponentLink2URL: http://cds.linear.com/docs/en/datasheet/3082f.pdf; ComponentLink3Description: Package Specification; ComponentLink3URL: http://cds.linear.com/docs/en/packaging/SOT_8_05-08-1637.pdf
footprint LT-TS8-8-TSOT-23_V (SOT23, 8-Leads, Body 2.90x1.63mm, Pitch 0.65mm, Recommended)
pins: 1 NC "No Connection. These pins have no connection to internal circuitry and may be tied to IN, OUT, GND or floated.", 2 OUT (power) "Output. This is the power output of the device. The LT3082 requires a 0.5mA minimum load current or the output will not regulate.", 3 OUT (power) "Output. This is the power output of the device. The LT3082 requires a 0.5mA minimum load current or the output will not regulate.", 4 OUT (power) "Output. This is the power output of the device. The LT3082 requires a 0.5mA minimum load current or the output will not regulate.", 5 SET (in) "Set. This pin is the error amplifier’s noninverting input and also sets the operating bias point of the circuit. A fixed 10uA current source flows out of this pin. A single external resistor programs VOUT. Output voltag(See Datasheet)", 6 NC "No Connection. These pins have no connection to internal circuitry and may be tied to IN, OUT, GND or floated.", 7 IN (power) "Input. This pin supplies power to regulate internal circuitry and supply output load current. For the device to operate properly and regulate, the voltage on this pin must be 1.2V to 1.4V above the OUT pin (depending on (See Datasheet)", 8 IN (power) "Input. This pin supplies power to regulate internal circuitry and supply output load current. For the device to operate properly and regulate, the voltage on this pin must be 1.2V to 1.4V above the OUT pin (depending on (See Datasheet)"

## LT3082ITS8#TRMPBF
designator U?
200 mA Single Resistor Low Dropout Linear Regulator, 1.2 to 40 V Vin, Adjustable Vout, 8-pin SOT23 (TS8-8), -40 to 125 degC, Pb-Free, Mini Tape and Reel; Manufacturer: Linear Technology; PartNumber: LT3082ITS8#TRMPBF; Discrete Pass Element: no; Dropout Voltage(V): 1.3; Iout(mA): 200; Isupply(mA): 0.3; Noise(uV): 33; Number of Outputs: 1; Output Voltage: Adj; PSRR(dB): 90; Vin Max(V): 40; Vin Min(V): 1.2; Vout Max(V): 38.5; Vout Min(V): 0; PackageVersion: Rev. A, 08/2010; PackageReference: TS8-8; PackageDescription: 8-Pin Plastic TSOT-23, Body 2.9 x 1.63 mm, Pitch 0.65 mm; Supplier 1: Digi-Key; Supplier Part Number 1: LT3082ITS8#TRMPBF-ND; Supplier 2: Newark; Supplier Part Number 2: 72R5806; Packing: Mini Tape and Reel; RoHS: TRUE; Mounting Technology: Surface Mount; Code_JEDEC: MO-193; ComponentLink1Description: Manufacturer URL; ComponentLink1URL: http://www.linear.com/; ComponentLink2Description: Datasheet; ComponentLink2URL: http://cds.linear.com/docs/en/datasheet/3082f.pdf; ComponentLink3Description: Package Specification; ComponentLink3URL: http://cds.linear.com/docs/en/packaging/SOT_8_05-08-1637.pdf
footprint LT-TS8-8-TSOT-23_V (SOT23, 8-Leads, Body 2.90x1.63mm, Pitch 0.65mm, Recommended)
pins: 1 NC "No Connection. These pins have no connection to internal circuitry and may be tied to IN, OUT, GND or floated.", 2 OUT (power) "Output. This is the power output of the device. The LT3082 requires a 0.5mA minimum load current or the output will not regulate.", 3 OUT (power) "Output. This is the power output of the device. The LT3082 requires a 0.5mA minimum load current or the output will not regulate.", 4 OUT (power) "Output. This is the power output of the device. The LT3082 requires a 0.5mA minimum load current or the output will not regulate.", 5 SET (in) "Set. This pin is the error amplifier’s noninverting input and also sets the operating bias point of the circuit. A fixed 10uA current source flows out of this pin. A single external resistor programs VOUT. Output voltag(See Datasheet)", 6 NC "No Connection. These pins have no connection to internal circuitry and may be tied to IN, OUT, GND or floated.", 7 IN (power) "Input. This pin supplies power to regulate internal circuitry and supply output load current. For the device to operate properly and regulate, the voltage on this pin must be 1.2V to 1.4V above the OUT pin (depending on (See Datasheet)", 8 IN (power) "Input. This pin supplies power to regulate internal circuitry and supply output load current. For the device to operate properly and regulate, the voltage on this pin must be 1.2V to 1.4V above the OUT pin (depending on (See Datasheet)"

## LT3082ITS8#TRPBF
designator U?
200 mA Single Resistor Low Dropout Linear Regulator, 1.2 to 40 V Vin, Adjustable Vout, 8-pin SOT23 (TS8-8), -40 to 125 degC, Pb-Free, Tape and Reel; Manufacturer: Linear Technology; PartNumber: LT3082ITS8#TRPBF; Discrete Pass Element: no; Dropout Voltage(V): 1.3; Iout(mA): 200; Isupply(mA): 0.3; Noise(uV): 33; Number of Outputs: 1; Output Voltage: Adj; PSRR(dB): 90; Vin Max(V): 40; Vin Min(V): 1.2; Vout Max(V): 38.5; Vout Min(V): 0; PackageVersion: Rev. A, 08/2010; PackageReference: TS8-8; PackageDescription: 8-Pin Plastic TSOT-23, Body 2.9 x 1.63 mm, Pitch 0.65 mm; Supplier 1: Digi-Key; Supplier Part Number 1: LT3082ITS8#TRPBF-ND; Packing: Tape and Reel; RoHS: TRUE; Mounting Technology: Surface Mount; Code_JEDEC: MO-193; ComponentLink1Description: Manufacturer URL; ComponentLink1URL: http://www.linear.com/; ComponentLink2Description: Datasheet; ComponentLink2URL: http://cds.linear.com/docs/en/datasheet/3082f.pdf; ComponentLink3Description: Package Specification; ComponentLink3URL: http://cds.linear.com/docs/en/packaging/SOT_8_05-08-1637.pdf
footprint LT-TS8-8-TSOT-23_V (SOT23, 8-Leads, Body 2.90x1.63mm, Pitch 0.65mm, Recommended)
pins: 1 NC "No Connection. These pins have no connection to internal circuitry and may be tied to IN, OUT, GND or floated.", 2 OUT (power) "Output. This is the power output of the device. The LT3082 requires a 0.5mA minimum load current or the output will not regulate.", 3 OUT (power) "Output. This is the power output of the device. The LT3082 requires a 0.5mA minimum load current or the output will not regulate.", 4 OUT (power) "Output. This is the power output of the device. The LT3082 requires a 0.5mA minimum load current or the output will not regulate.", 5 SET (in) "Set. This pin is the error amplifier’s noninverting input and also sets the operating bias point of the circuit. A fixed 10uA current source flows out of this pin. A single external resistor programs VOUT. Output voltag(See Datasheet)", 6 NC "No Connection. These pins have no connection to internal circuitry and may be tied to IN, OUT, GND or floated.", 7 IN (power) "Input. This pin supplies power to regulate internal circuitry and supply output load current. For the device to operate properly and regulate, the voltage on this pin must be 1.2V to 1.4V above the OUT pin (depending on (See Datasheet)", 8 IN (power) "Input. This pin supplies power to regulate internal circuitry and supply output load current. For the device to operate properly and regulate, the voltage on this pin must be 1.2V to 1.4V above the OUT pin (depending on (See Datasheet)"